# Altium schematic symbol library THS4508.SchLib: 1 symbol
Pins are listed as number, name and electrical type; pins without a type are passive.

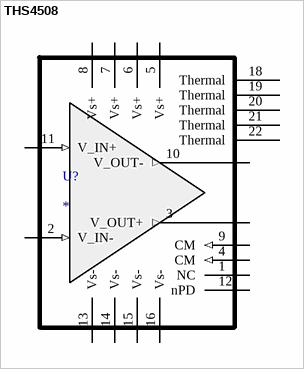
[diagram p0: symbol THS4508]

## THS4508
designator U?
footprint QFN50P300X300X100-17N
pins: 1 NC, 2 V_IN- (in), 3 V_OUT+ (out), 4 CM (in), 5 Vs+ (power), 6 Vs+ (power), 7 Vs+ (power), 8 Vs+ (power), 9 CM (in), 10 V_OUT- (out), 11 V_IN+ (in), 12 nPD, 13 Vs- (power), 14 Vs- (power), 15 Vs- (power), 16 Vs- (power), 18 Thermal, 19 Thermal, 20 Thermal, 21 Thermal, 22 Thermal